# EAGLE library part LTC6912CGN-1#PBF (library Oscilloscope_Components v39)
Dual Programmable Gain Amplifiers with Serial Digital Interface Check availability <https://pricing.snapeda.com/parts/LTC6912CGN-1%23PBF/Analog%20Devices/view-part?ref=eda>
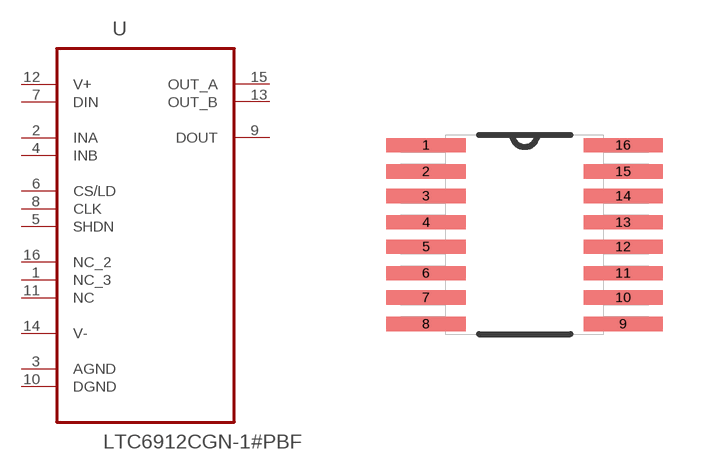
[diagram p4: symbol with the pads of SOP63P600X175-16N; footprint SOP63P600X175-16N]

Designator prefix U

## LTC6912CGN-1#PBF (AVAILABILITY: In Stock; CHECK_PRICES: https://www.snapeda.com/parts/LTC6912CGN-1%23PBF/Analog+Devices/view-part/?ref=eda; DESCRIPTION: Dual Programmable Gain Amplifiers with Serial Digital Interface; MF: Analog Devices; MP: LTC6912CGN-1#PBF; PACKAGE: SSOP -16 Analog Devices; PRICE: None; PURCHASE-URL: https://www.snapeda.com/api/url_track_click_mouser/?unipart_id=4332820&manufacturer=Analog Devices&part_name=LTC6912CGN-1#PBF&search_term=ltc6912; SNAPEDA_LINK: https://www.snapeda.com/parts/LTC6912CGN-1%23PBF/Analog+Devices/view-part/?ref=snap)  [SOP63P600X175-16N]
1  NC_3  nc
2  INA  in
3  AGND  pas
4  INB  in
5  SHDN  in
6  CS/LD  in
7  DIN  in
8  CLK  in
9  DOUT  out
10  DGND  pas
11  NC  nc
12  V+  pwr
13  OUT_B  out
14  V-  pwr
15  OUT_A  out
16  NC_2  nc

## Footprint SOP63P600X175-16N (pad centres in mm)
smd 1.981 x 0.356: 1 -2.464,2.235; 2 -2.464,1.575; 3 -2.464,0.965; 4 -2.464,0.305; 5 -2.464,-0.305; 6 -2.464,-0.965; 7 -2.464,-1.575; 8 -2.464,-2.235; 9 2.464,-2.235; 10 2.464,-1.575; 11 2.464,-0.965; 12 2.464,-0.305; 13 2.464,0.305; 14 2.464,0.965; 15 2.464,1.575; 16 2.464,2.235